# EAGLE library part TORX173 (library AMP2-ICs)
FIBER OPTIC RECEIVING MODULE FOR DIGITAL AUDIO EQUIPMENT, TTL Interface TORX173.pdf
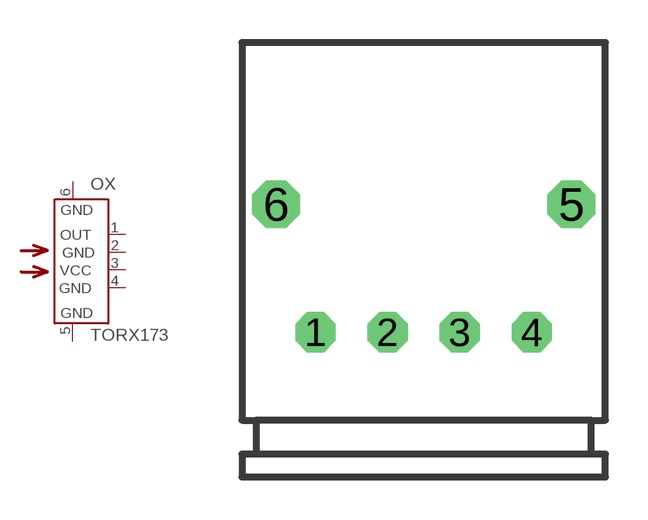
[diagram p74: symbol with the pads of TORX173; footprint TORX173]

Designator prefix OX

## TORX173 (OC_FARNELL: unknown; OC_NEWARK: unknown)  [TORX173]
1  OUT  out
2  GND  pwr
3  VCC  pwr
4  GND  pwr
5  GND  pwr
6  GND  pwr

## Footprint TORX173 (pad centres in mm)
FIBER OPTIC RECEIVING MODULE FOR DIGITAL AUDIO EQUIPMENT; TTL Interface TORX173.pdf
drill 0.85 pad 1.422 octagon: 1 -3.81,0; 2 -1.27,0; 3 1.27,0; 4 3.81,0
drill 0.9 pad 1.676 octagon: 5 5.2,4.5; 6 -5.2,4.5